# Altium schematic symbol library MLT-8530.SchLib: 1 symbol
Pins are listed as number, name and electrical type; pins without a type are passive.

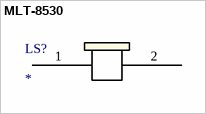
[diagram p0: symbol MLT-8530]

## MLT-8530
designator LS?
No Description Available; Mfr_Name: Jiangsu Huaneng Elec; RefDes: RefDes; Type: Type
footprint MLT-8530_JHE
pins: 1, 2